# Altium integrated library XT60.IntLib: 2 symbols
Pins are listed as number, name and electrical type; pins without a type are passive.

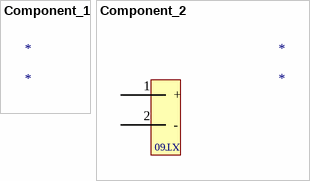
[diagram p0: symbols Component_1 to Component_2]

## Component_1
designator *

## Component_2
designator *
footprint PCBComponent_1
pins: 1 +, 2 -
text: XT60